# EAGLE library part DE1_GPIO_L (library de1_parts)
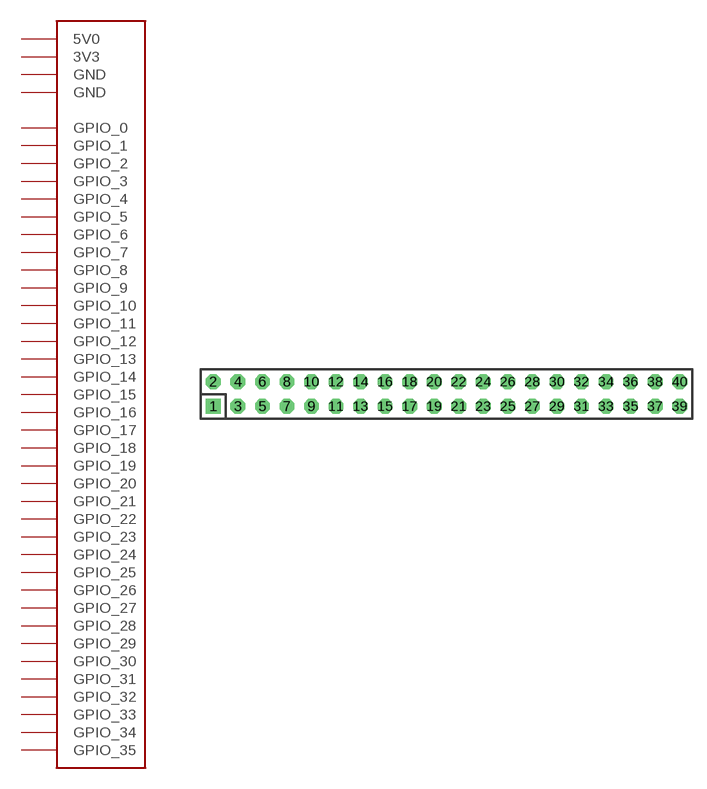
[diagram p3: symbol with the pads of DIL-100-2X20; footprint DIL-100-2X20]

Designator prefix -

## DE1_GPIO_L  [DIL-100-2X20]
1  GPIO_0
2  GPIO_1
3  GPIO_2
4  GPIO_3
5  GPIO_4
6  GPIO_5
7  GPIO_6
8  GPIO_7
9  GPIO_8
10  GPIO_9
11  5V0  pwr
12  GND  pwr
13  GPIO_10
14  GPIO_11
15  GPIO_12
16  GPIO_13
17  GPIO_14
18  GPIO_15
19  GPIO_16
20  GPIO_17
21  GPIO_18
22  GPIO_19
23  GPIO_20
24  GPIO_21
25  GPIO_22
26  GPIO_23
27  GPIO_24
28  GPIO_25
29  3V3  pwr
30  GND  pwr
31  GPIO_26
32  GPIO_27
33  GPIO_28
34  GPIO_29
35  GPIO_30
36  GPIO_31
37  GPIO_32
38  GPIO_33
39  GPIO_34
40  GPIO_35

## Footprint DIL-100-2X20 (pad centres in mm)
PIN HEADER - 0.1"
drill 1.016 square: 1 -24.13,-1.27
drill 1.016 octagon: 2 -24.13,1.27; 3 -21.59,-1.27; 4 -21.59,1.27; 5 -19.05,-1.27; 6 -19.05,1.27; 7 -16.51,-1.27; 8 -16.51,1.27; 9 -13.97,-1.27; 10 -13.97,1.27; 11 -11.43,-1.27; 12 -11.43,1.27; 13 -8.89,-1.27; 14 -8.89,1.27; 15 -6.35,-1.27; 16 -6.35,1.27; 17 -3.81,-1.27; 18 -3.81,1.27; 19 -1.27,-1.27; 20 -1.27,1.27; 21 1.27,-1.27; 22 1.27,1.27; 23 3.81,-1.27; 24 3.81,1.27; 25 6.35,-1.27; 26 6.35,1.27; 27 8.89,-1.27; 28 8.89,1.27; 29 11.43,-1.27; 30 11.43,1.27; 31 13.97,-1.27; 32 13.97,1.27; 33 16.51,-1.27; 34 16.51,1.27; 35 19.05,-1.27; 36 19.05,1.27; 37 21.59,-1.27; 38 21.59,1.27; 39 24.13,-1.27; 40 24.13,1.27